# EAGLE library part EFM32LG895F64 (library EnergyMicro)
EFM32LG895F64 Leopard Microcontroller in 7mm x 7mm BGA120 package
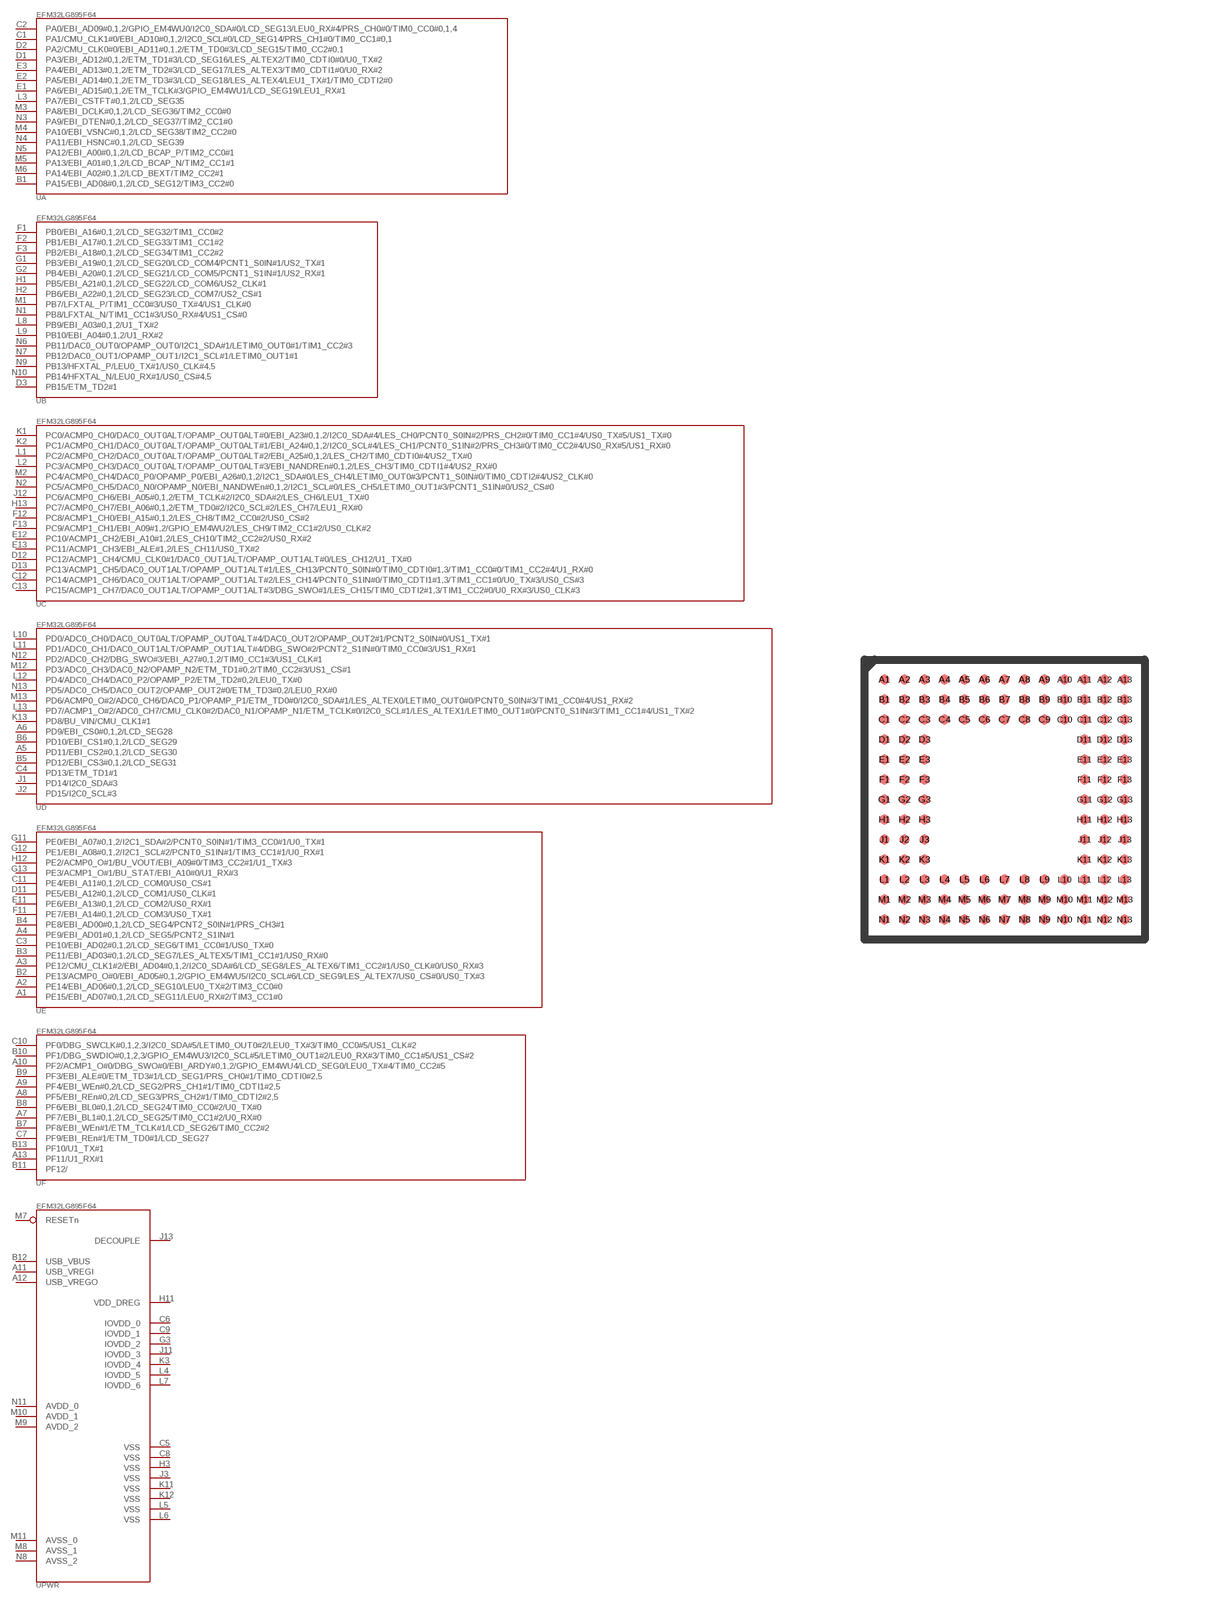
[diagram p99: symbol with the pads of BGA120; footprint BGA120]

Designator prefix -; gates A=EFM32LG895F64_A B=EFM32LG895F64_B C=EFM32LG895F64_C D=EFM32LG895F64_D E=EFM32LG895F64_E F=EFM32LG895F64_F PWR=EFM32LG895F64_PWR

## EFM32LG895F64  [BGA120]
A1  E:PE15/EBI_AD07#0,1,2/LCD_SEG11/LEU0_RX#2/TIM3_CC1#0
A2  E:PE14/EBI_AD06#0,1,2/LCD_SEG10/LEU0_TX#2/TIM3_CC0#0
A3  E:PE12/CMU_CLK1#2/EBI_AD04#0,1,2/I2C0_SDA#6/LCD_SEG8/LES_ALTEX6/TIM1_CC2#1/US0_CLK#0/US0_RX#3
A4  E:PE9/EBI_AD01#0,1,2/LCD_SEG5/PCNT2_S1IN#1
A5  D:PD11/EBI_CS2#0,1,2/LCD_SEG30
A6  D:PD9/EBI_CS0#0,1,2/LCD_SEG28
A7  F:PF7/EBI_BL1#0,1,2/LCD_SEG25/TIM0_CC1#2/U0_RX#0
A8  F:PF5/EBI_REn#0,2/LCD_SEG3/PRS_CH2#1/TIM0_CDTI2#2,5
A9  F:PF4/EBI_WEn#0,2/LCD_SEG2/PRS_CH1#1/TIM0_CDTI1#2,5
A10  F:PF2/ACMP1_O#0/DBG_SWO#0/EBI_ARDY#0,1,2/GPIO_EM4WU4/LCD_SEG0/LEU0_TX#4/TIM0_CC2#5
A11  PWR:USB_VREGI  pwr
A12  PWR:USB_VREGO  pwr
A13  F:PF11/U1_RX#1
B1  A:PA15/EBI_AD08#0,1,2/LCD_SEG12/TIM3_CC2#0
B2  E:PE13/ACMP0_O#0/EBI_AD05#0,1,2/GPIO_EM4WU5/I2C0_SCL#6/LCD_SEG9/LES_ALTEX7/US0_CS#0/US0_TX#3
B3  E:PE11/EBI_AD03#0,1,2/LCD_SEG7/LES_ALTEX5/TIM1_CC1#1/US0_RX#0
B4  E:PE8/EBI_AD00#0,1,2/LCD_SEG4/PCNT2_S0IN#1/PRS_CH3#1
B5  D:PD12/EBI_CS3#0,1,2/LCD_SEG31
B6  D:PD10/EBI_CS1#0,1,2/LCD_SEG29
B7  F:PF8/EBI_WEn#1/ETM_TCLK#1/LCD_SEG26/TIM0_CC2#2
B8  F:PF6/EBI_BL0#0,1,2/LCD_SEG24/TIM0_CC0#2/U0_TX#0
B9  F:PF3/EBI_ALE#0/ETM_TD3#1/LCD_SEG1/PRS_CH0#1/TIM0_CDTI0#2,5
B10  F:PF1/DBG_SWDIO#0,1,2,3/GPIO_EM4WU3/I2C0_SCL#5/LETIM0_OUT1#2/LEU0_RX#3/TIM0_CC1#5/US1_CS#2
B11  F:PF12/
B12  PWR:USB_VBUS  pwr
B13  F:PF10/U1_TX#1
C1  A:PA1/CMU_CLK1#0/EBI_AD10#0,1,2/I2C0_SCL#0/LCD_SEG14/PRS_CH1#0/TIM0_CC1#0,1
C2  A:PA0/EBI_AD09#0,1,2/GPIO_EM4WU0/I2C0_SDA#0/LCD_SEG13/LEU0_RX#4/PRS_CH0#0/TIM0_CC0#0,1,4
C3  E:PE10/EBI_AD02#0,1,2/LCD_SEG6/TIM1_CC0#1/US0_TX#0
C4  D:PD13/ETM_TD1#1
C5  PWR:VSS  pwr
C6  PWR:IOVDD_0  pwr
C7  F:PF9/EBI_REn#1/ETM_TD0#1/LCD_SEG27
C8  PWR:VSS  pwr
C9  PWR:IOVDD_1  pwr
C10  F:PF0/DBG_SWCLK#0,1,2,3/I2C0_SDA#5/LETIM0_OUT0#2/LEU0_TX#3/TIM0_CC0#5/US1_CLK#2
C11  E:PE4/EBI_A11#0,1,2/LCD_COM0/US0_CS#1
C12  C:PC14/ACMP1_CH6/DAC0_OUT1ALT/OPAMP_OUT1ALT#2/LES_CH14/PCNT0_S1IN#0/TIM0_CDTI1#1,3/TIM1_CC1#0/U0_TX#3/US0_CS#3
C13  C:PC15/ACMP1_CH7/DAC0_OUT1ALT/OPAMP_OUT1ALT#3/DBG_SWO#1/LES_CH15/TIM0_CDTI2#1,3/TIM1_CC2#0/U0_RX#3/US0_CLK#3
D1  A:PA3/EBI_AD12#0,1,2/ETM_TD1#3/LCD_SEG16/LES_ALTEX2/TIM0_CDTI0#0/U0_TX#2
D2  A:PA2/CMU_CLK0#0/EBI_AD11#0,1,2/ETM_TD0#3/LCD_SEG15/TIM0_CC2#0,1
D3  B:PB15/ETM_TD2#1
D11  E:PE5/EBI_A12#0,1,2/LCD_COM1/US0_CLK#1
D12  C:PC12/ACMP1_CH4/CMU_CLK0#1/DAC0_OUT1ALT/OPAMP_OUT1ALT#0/LES_CH12/U1_TX#0
D13  C:PC13/ACMP1_CH5/DAC0_OUT1ALT/OPAMP_OUT1ALT#1/LES_CH13/PCNT0_S0IN#0/TIM0_CDTI0#1,3/TIM1_CC0#0/TIM1_CC2#4/U1_RX#0
E1  A:PA6/EBI_AD15#0,1,2/ETM_TCLK#3/GPIO_EM4WU1/LCD_SEG19/LEU1_RX#1
E2  A:PA5/EBI_AD14#0,1,2/ETM_TD3#3/LCD_SEG18/LES_ALTEX4/LEU1_TX#1/TIM0_CDTI2#0
E3  A:PA4/EBI_AD13#0,1,2/ETM_TD2#3/LCD_SEG17/LES_ALTEX3/TIM0_CDTI1#0/U0_RX#2
E11  E:PE6/EBI_A13#0,1,2/LCD_COM2/US0_RX#1
E12  C:PC10/ACMP1_CH2/EBI_A10#1,2/LES_CH10/TIM2_CC2#2/US0_RX#2
E13  C:PC11/ACMP1_CH3/EBI_ALE#1,2/LES_CH11/US0_TX#2
F1  B:PB0/EBI_A16#0,1,2/LCD_SEG32/TIM1_CC0#2
F2  B:PB1/EBI_A17#0,1,2/LCD_SEG33/TIM1_CC1#2
F3  B:PB2/EBI_A18#0,1,2/LCD_SEG34/TIM1_CC2#2
F11  E:PE7/EBI_A14#0,1,2/LCD_COM3/US0_TX#1
F12  C:PC8/ACMP1_CH0/EBI_A15#0,1,2/LES_CH8/TIM2_CC0#2/US0_CS#2
F13  C:PC9/ACMP1_CH1/EBI_A09#1,2/GPIO_EM4WU2/LES_CH9/TIM2_CC1#2/US0_CLK#2
G1  B:PB3/EBI_A19#0,1,2/LCD_SEG20/LCD_COM4/PCNT1_S0IN#1/US2_TX#1
G2  B:PB4/EBI_A20#0,1,2/LCD_SEG21/LCD_COM5/PCNT1_S1IN#1/US2_RX#1
G3  PWR:IOVDD_2  pwr
G11  E:PE0/EBI_A07#0,1,2/I2C1_SDA#2/PCNT0_S0IN#1/TIM3_CC0#1/U0_TX#1
G12  E:PE1/EBI_A08#0,1,2/I2C1_SCL#2/PCNT0_S1IN#1/TIM3_CC1#1/U0_RX#1
G13  E:PE3/ACMP1_O#1/BU_STAT/EBI_A10#0/U1_RX#3
H1  B:PB5/EBI_A21#0,1,2/LCD_SEG22/LCD_COM6/US2_CLK#1
H2  B:PB6/EBI_A22#0,1,2/LCD_SEG23/LCD_COM7/US2_CS#1
H3  PWR:VSS  pwr
H11  PWR:VDD_DREG  pwr
H12  E:PE2/ACMP0_O#1/BU_VOUT/EBI_A09#0/TIM3_CC2#1/U1_TX#3
H13  C:PC7/ACMP0_CH7/EBI_A06#0,1,2/ETM_TD0#2/I2C0_SCL#2/LES_CH7/LEU1_RX#0
J1  D:PD14/I2C0_SDA#3
J2  D:PD15/I2C0_SCL#3
J3  PWR:VSS  pwr
J11  PWR:IOVDD_3  pwr
J12  C:PC6/ACMP0_CH6/EBI_A05#0,1,2/ETM_TCLK#2/I2C0_SDA#2/LES_CH6/LEU1_TX#0
J13  PWR:DECOUPLE  pwr
K1  C:PC0/ACMP0_CH0/DAC0_OUT0ALT/OPAMP_OUT0ALT#0/EBI_A23#0,1,2/I2C0_SDA#4/LES_CH0/PCNT0_S0IN#2/PRS_CH2#0/TIM0_CC1#4/US0_TX#5/US1_TX#0
K2  C:PC1/ACMP0_CH1/DAC0_OUT0ALT/OPAMP_OUT0ALT#1/EBI_A24#0,1,2/I2C0_SCL#4/LES_CH1/PCNT0_S1IN#2/PRS_CH3#0/TIM0_CC2#4/US0_RX#5/US1_RX#0
K3  PWR:IOVDD_4  pwr
K11  PWR:VSS  pwr
K12  PWR:VSS  pwr
K13  D:PD8/BU_VIN/CMU_CLK1#1
L1  C:PC2/ACMP0_CH2/DAC0_OUT0ALT/OPAMP_OUT0ALT#2/EBI_A25#0,1,2/LES_CH2/TIM0_CDTI0#4/US2_TX#0
L2  C:PC3/ACMP0_CH3/DAC0_OUT0ALT/OPAMP_OUT0ALT#3/EBI_NANDREn#0,1,2/LES_CH3/TIM0_CDTI1#4/US2_RX#0
L3  A:PA7/EBI_CSTFT#0,1,2/LCD_SEG35
L4  PWR:IOVDD_5  pwr
L5  PWR:VSS  pwr
L6  PWR:VSS  pwr
L7  PWR:IOVDD_6  pwr
L8  B:PB9/EBI_A03#0,1,2/U1_TX#2
L9  B:PB10/EBI_A04#0,1,2/U1_RX#2
L10  D:PD0/ADC0_CH0/DAC0_OUT0ALT/OPAMP_OUT0ALT#4/DAC0_OUT2/OPAMP_OUT2#1/PCNT2_S0IN#0/US1_TX#1
L11  D:PD1/ADC0_CH1/DAC0_OUT1ALT/OPAMP_OUT1ALT#4/DBG_SWO#2/PCNT2_S1IN#0/TIM0_CC0#3/US1_RX#1
L12  D:PD4/ADC0_CH4/DAC0_P2/OPAMP_P2/ETM_TD2#0,2/LEU0_TX#0
L13  D:PD7/ACMP1_O#2/ADC0_CH7/CMU_CLK0#2/DAC0_N1/OPAMP_N1/ETM_TCLK#0/I2C0_SCL#1/LES_ALTEX1/LETIM0_OUT1#0/PCNT0_S1IN#3/TIM1_CC1#4/US1_TX#2
M1  B:PB7/LFXTAL_P/TIM1_CC0#3/US0_TX#4/US1_CLK#0
M2  C:PC4/ACMP0_CH4/DAC0_P0/OPAMP_P0/EBI_A26#0,1,2/I2C1_SDA#0/LES_CH4/LETIM0_OUT0#3/PCNT1_S0IN#0/TIM0_CDTI2#4/US2_CLK#0
M3  A:PA8/EBI_DCLK#0,1,2/LCD_SEG36/TIM2_CC0#0
M4  A:PA10/EBI_VSNC#0,1,2/LCD_SEG38/TIM2_CC2#0
M5  A:PA13/EBI_A01#0,1,2/LCD_BCAP_N/TIM2_CC1#1
M6  A:PA14/EBI_A02#0,1,2/LCD_BEXT/TIM2_CC2#1
M7  PWR:RESETn  pas
M8  PWR:AVSS_1  pwr
M9  PWR:AVDD_2  pwr
M10  PWR:AVDD_1  pwr
M11  PWR:AVSS_0  pwr
M12  D:PD3/ADC0_CH3/DAC0_N2/OPAMP_N2/ETM_TD1#0,2/TIM0_CC2#3/US1_CS#1
M13  D:PD6/ACMP0_O#2/ADC0_CH6/DAC0_P1/OPAMP_P1/ETM_TD0#0/I2C0_SDA#1/LES_ALTEX0/LETIM0_OUT0#0/PCNT0_S0IN#3/TIM1_CC0#4/US1_RX#2
N1  B:PB8/LFXTAL_N/TIM1_CC1#3/US0_RX#4/US1_CS#0
N2  C:PC5/ACMP0_CH5/DAC0_N0/OPAMP_N0/EBI_NANDWEn#0,1,2/I2C1_SCL#0/LES_CH5/LETIM0_OUT1#3/PCNT1_S1IN#0/US2_CS#0
N3  A:PA9/EBI_DTEN#0,1,2/LCD_SEG37/TIM2_CC1#0
N4  A:PA11/EBI_HSNC#0,1,2/LCD_SEG39
N5  A:PA12/EBI_A00#0,1,2/LCD_BCAP_P/TIM2_CC0#1
N6  B:PB11/DAC0_OUT0/OPAMP_OUT0/I2C1_SDA#1/LETIM0_OUT0#1/TIM1_CC2#3
N7  B:PB12/DAC0_OUT1/OPAMP_OUT1/I2C1_SCL#1/LETIM0_OUT1#1
N8  PWR:AVSS_2  pwr
N9  B:PB13/HFXTAL_P/LEU0_TX#1/US0_CLK#4,5
N10  B:PB14/HFXTAL_N/LEU0_RX#1/US0_CS#4,5
N11  PWR:AVDD_0  pwr
N12  D:PD2/ADC0_CH2/DBG_SWO#3/EBI_A27#0,1,2/TIM0_CC1#3/US1_CLK#1
N13  D:PD5/ADC0_CH5/DAC0_OUT2/OPAMP_OUT2#0/ETM_TD3#0,2/LEU0_RX#0

## Footprint BGA120 (pad centres in mm)
smd 0.25 x 0.25: A1 -3,3; A2 -2.5,3; A3 -2,3; A4 -1.5,3; A5 -1,3; A6 -0.5,3; A7 0,3; A8 0.5,3; A9 1,3; A10 1.5,3; A11 2,3; A12 2.5,3; A13 3,3; B1 -3,2.5; B2 -2.5,2.5; B3 -2,2.5; B4 -1.5,2.5; B5 -1,2.5; B6 -0.5,2.5; B7 0,2.5; B8 0.5,2.5; B9 1,2.5; B10 1.5,2.5; B11 2,2.5; B12 2.5,2.5; B13 3,2.5; C1 -3,2; C2 -2.5,2; C3 -2,2; C4 -1.5,2; C5 -1,2; C6 -0.5,2; C7 0,2; C8 0.5,2; C9 1,2; C10 1.5,2; C11 2,2; C12 2.5,2; C13 3,2; D1 -3,1.5; D2 -2.5,1.5; D3 -2,1.5; D11 2,1.5; D12 2.5,1.5; D13 3,1.5; E1 -3,1; E2 -2.5,1; E3 -2,1; E11 2,1; E12 2.5,1; E13 3,1; F1 -3,0.5; F2 -2.5,0.5; F3 -2,0.5; F11 2,0.5; F12 2.5,0.5; F13 3,0.5; G1 -3,0; G2 -2.5,0; G3 -2,0; G11 2,0; G12 2.5,0; G13 3,0; H1 -3,-0.5; H2 -2.5,-0.5; H3 -2,-0.5; H11 2,-0.5; H12 2.5,-0.5; H13 3,-0.5; J1 -3,-1; J2 -2.5,-1; J3 -2,-1; J11 2,-1; J12 2.5,-1; J13 3,-1; K1 -3,-1.5; K2 -2.5,-1.5; K3 -2,-1.5; K11 2,-1.5; K12 2.5,-1.5; K13 3,-1.5; L1 -3,-2; L2 -2.5,-2; L3 -2,-2; L4 -1.5,-2; L5 -1,-2; L6 -0.5,-2; L7 0,-2; L8 0.5,-2; L9 1,-2; L10 1.5,-2; L11 2,-2; L12 2.5,-2; L13 3,-2; M1 -3,-2.5; M2 -2.5,-2.5; M3 -2,-2.5; M4 -1.5,-2.5; M5 -1,-2.5; M6 -0.5,-2.5; M7 0,-2.5; M8 0.5,-2.5; M9 1,-2.5; M10 1.5,-2.5; M11 2,-2.5; M12 2.5,-2.5; M13 3,-2.5; N1 -3,-3; N2 -2.5,-3; N3 -2,-3; N4 -1.5,-3; N5 -1,-3; N6 -0.5,-3; N7 0,-3; N8 0.5,-3; N9 1,-3; N10 1.5,-3; N11 2,-3; N12 2.5,-3; N13 3,-3